# Altium footprint library Linear stabilizers.PcbLib: 2 footprints
Each footprint in its own frame and in the unit in brackets; x right, y up, seen from the top. Pads: shape width x height; smd on the part's side, far side on the other; paste and mask are expansions set on the pad; w line width, h text height; cw(c..) or ccw(c..) is an arc to the next point about the centre after c.
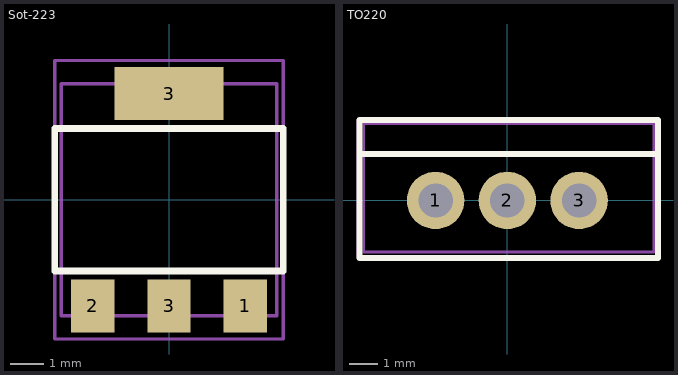
[diagram p0: the footprints below, top view; thin cyan lines are the x and y axes]

## Sot-223 [mm]
pads (4):
  rect 1.3x1.6 smd: 1(2.3,-3.2) 2(-2.3,-3.2) 3(0,-3.2)
  rect 3.3x1.6 smd: 3(0,3.2)
Top Overlay:
  lines w0.2: -3.45,-2.15 3.45,-2.15 3.45,2.15 -3.45,2.15 -3.45,-2.15
Top Assy:
  lines w0.1: -3.25,-3.5 3.25,-3.5 3.25,3.5 -3.25,3.5 -3.25,-3.5
Border (Mech15):
  lines w0.1: -3.45,-4.2 -3.45,4.2 3.45,4.2 3.45,-4.2 -3.45,-4.2
3D body "ALSRobot-SOT-223.step": height 1.61, standoff -0.05, extent -3.25,-3.5 3.25,3.5

## TO220 [mm] "Generic TO-220 case, stay variant"
height 22
pads (3):
  round 2 hole 1.2: 1(-2.5,0) 2(0,0) 3(2.5,0)
Top Overlay:
  lines w0.2: -5.15,1.619 5.247,1.619 ; -5.15,-2 -5.15,2.8 5.247,2.8 5.247,-2 -5.15,-2
Top Assy:
  lines w0.1: -5,1.6 5.1,1.6 ; -5,-1.8 5.1,-1.8 5.1,2.675 -5,2.675 -5,-1.8
Border (Mech15):
  lines w0.1: -0.5,0 0.5,0 ; 0,-0.5 0,0.5 ; -5.2,-2 -5.2,2.8 5.247,2.8 5.247,-2 -5.2,-2
3D body "User Library-TO-220-4.STEP": height 22.06, standoff -6.74, extent -5,-1.8 5.2,2.7